# EAGLE library part LIB_ENS_AJ_V1_XPRESSO_804 (library CarteUE441_v2)
lpc804
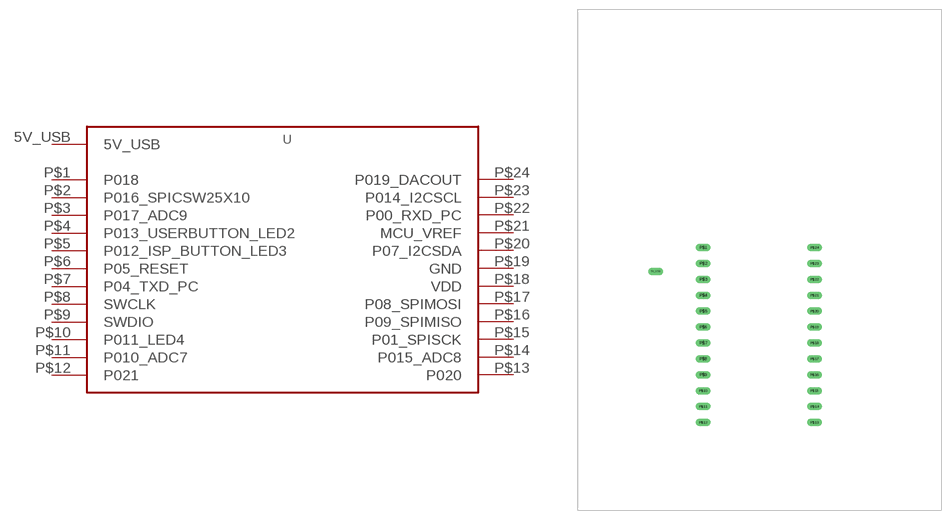
[diagram p3: symbol with the pads of LIB_ENS_AJ_V1_XPRESSO_804; footprint LIB_ENS_AJ_V1_XPRESSO_804]

Designator prefix -

## LIB_ENS_AJ_V1_XPRESSO_804  [LIB_ENS_AJ_V1_XPRESSO_804]
5V_USB  5V_USB
P$1  P018
P$2  P016_SPICSW25X10
P$3  P017_ADC9
P$4  P013_USERBUTTON_LED2
P$5  P012_ISP_BUTTON_LED3
P$6  P05_RESET
P$7  P04_TXD_PC
P$8  SWCLK
P$9  SWDIO
P$10  P011_LED4
P$11  P010_ADC7
P$12  P021
P$13  P020
P$14  P015_ADC8
P$15  P01_SPISCK
P$16  P09_SPIMISO
P$17  P08_SPIMOSI
P$18  VDD
P$19  GND
P$20  P07_I2CSDA
P$21  MCU_VREF
P$22  P00_RXD_PC
P$23  P014_I2CSCL
P$24  P019_DACOUT

## Footprint LIB_ENS_AJ_V1_XPRESSO_804 (pad centres in mm)
drill 0.7 long: 5V_USB -7.62,24.13; P$1 0,27.94; P$2 0,25.4; P$3 0,22.86; P$4 0,20.32; P$5 0,17.78; P$6 0,15.24; P$7 0,12.7; P$8 0,10.16; P$9 0,7.62; P$10 0,5.08; P$11 0,2.54; P$12 0,0; P$13 17.78,0; P$14 17.78,2.54; P$15 17.78,5.08; P$16 17.78,7.62; P$17 17.78,10.16; P$18 17.78,12.7; P$19 17.78,15.24; P$20 17.78,17.78; P$21 17.78,20.32; P$22 17.78,22.86; P$23 17.78,25.4; P$24 17.78,27.94